# EAGLE library part TDA7393 (library st-tda7393)
2 x 35W Dual Bridge Car Radio Amplifier
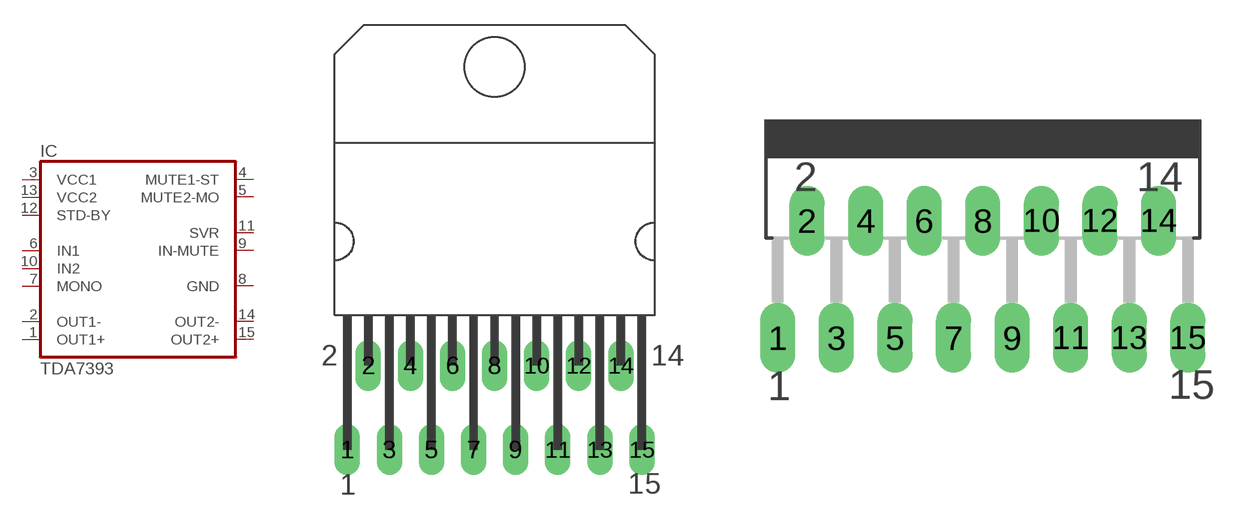
[diagram p0: symbol with the pads of MULTIWATT-15H; footprints MULTIWATT-15H, MULTIWATT-15V]

Designator prefix IC

## TDA7393H  [MULTIWATT-15H]
1  OUT1+  out
2  OUT1-  out
3  VCC1  pwr
4  MUTE1-ST  in
5  MUTE2-MO  in
6  IN1  in
7  MONO  in
8  GND  pwr
9  IN-MUTE  in
10  IN2  in
11  SVR  pas
12  STD-BY  in
13  VCC2  pwr
14  OUT2-  out
15  OUT2+  out

## TDA7393V  [MULTIWATT-15V]
Pads as for MULTIWATT-15H

## Footprint MULTIWATT-15H (pad centres in mm)
Multiwatt 15 horizontal
drill 1.016 long: 1 -8.89,-5.08; 2 -7.62,0; 3 -6.35,-5.08; 4 -5.08,0; 5 -3.81,-5.08; 6 -2.54,0; 7 -1.27,-5.08; 8 0,0; 9 1.27,-5.08; 10 2.54,0; 11 3.81,-5.08; 12 5.08,0; 13 6.35,-5.08; 14 7.62,0; 15 8.89,-5.08

## Footprint MULTIWATT-15V (pad centres in mm)
Multiwatt 15 vertical
drill 1.016 long: 1 -8.89,-7.62; 2 -7.62,-2.54; 3 -6.35,-7.62; 4 -5.08,-2.54; 5 -3.81,-7.62; 6 -2.54,-2.54; 7 -1.27,-7.62; 8 0,-2.54; 9 1.27,-7.62; 10 2.54,-2.54; 11 3.81,-7.62; 12 5.08,-2.54; 13 6.35,-7.62; 14 7.62,-2.54; 15 8.89,-7.62